# EAGLE library part ATTINY*61 (library avr-4)
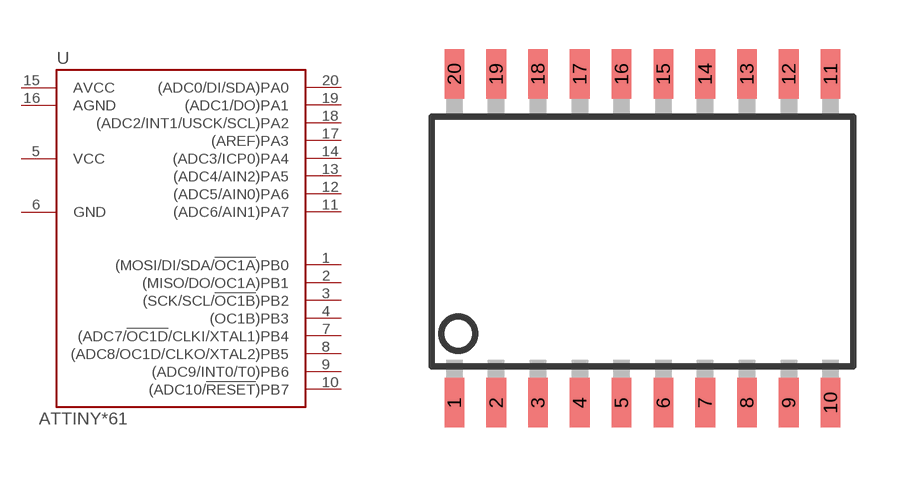
[diagram p0: symbol with the pads of SOIC20S; footprint SOIC20S]

Designator prefix U

## ATTINY61TINY861-20SU  [SOIC20S]
1  (MOSI/DI/SDA/!OC1A!)PB0
2  (MISO/DO/OC1A)PB1
3  (SCK/SCL/!OC1B!)PB2
4  (OC1B)PB3
5  VCC  pwr
6  GND  pwr
7  (ADC7/!OC1D!/CLKI/XTAL1)PB4
8  (ADC8/OC1D/CLKO/XTAL2)PB5
9  (ADC9/INT0/T0)PB6
10  (ADC10/!RESET!)PB7
11  (ADC6/AIN1)PA7
12  (ADC5/AIN0)PA6
13  (ADC4/AIN2)PA5
14  (ADC3/ICP0)PA4
15  AVCC  pwr
16  AGND  pwr
17  (AREF)PA3
18  (ADC2/INT1/USCK/SCL)PA2
19  (ADC1/DO)PA1
20  (ADC0/DI/SDA)PA0

## Footprint SOIC20S (pad centres in mm)
Wide Plastic Gull Wing Small Outline Package
smd 0.6 x 1.5: 1 -5.715,-5; 2 -4.445,-5; 3 -3.175,-5; 4 -1.905,-5; 5 -0.635,-5; 6 0.635,-5; 7 1.905,-5; 8 3.175,-5; 9 4.445,-5; 10 5.715,-5; 11 5.715,5; 12 4.445,5; 13 3.175,5; 14 1.905,5; 15 0.635,5; 16 -0.635,5; 17 -1.905,5; 18 -3.175,5; 19 -4.445,5; 20 -5.715,5